# EAGLE library part MCP6002 (library Amplifiers)
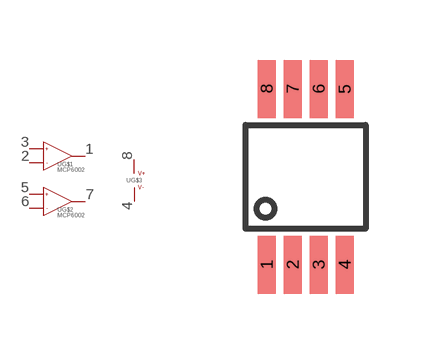
[diagram p1: symbol with the pads of MSOP-8; footprint MSOP-8]

Designator prefix U; gates G$1=OP-AMP G$2=OP-AMP G$3=VREF

## MCP6002MS  [MSOP-8]
1  G$1:OUT  pas
2  G$1:IN-  pas
3  G$1:IN+  pas
4  G$3:V-  pas
5  G$2:IN+  pas
6  G$2:IN-  pas
7  G$2:OUT  pas
8  G$3:V+  pas

## Footprint MSOP-8 (pad centres in mm)
smd 0.45 x 1.45: 1 -0.975,-2.2; 2 -0.325,-2.2; 3 0.325,-2.2; 4 0.975,-2.2; 5 0.975,2.2; 6 0.325,2.2; 7 -0.325,2.2; 8 -0.975,2.2